# Altium schematic symbol library LM.SchLib: 2 symbols
Pins are listed as number, name and electrical type; pins without a type are passive.

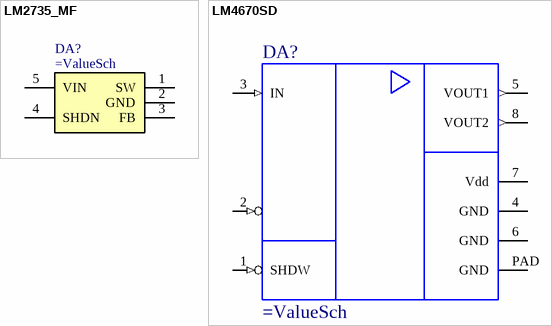
[diagram p0: symbols LM2735_MF to LM4670SD]

## LM2735_MF
designator DA?
LM2735
pins: 1 SW, 2 GND, 3 FB, 4 SHDN, 5 VIN

## LM4670SD
designator DA?
3W Switching  Audio Amplifier
pins: 1 SHDW (in) "Shutdown mode", 2 -IN (in) "Invert input", 3 IN (in) "Noninvert input", 4 GND (power), 5 VOUT1 (out) "Output 1", 6 GND (power), 7 Vdd (power) "Power supply", 8 VOUT2 (out) "Output 2", PAD GND (power) "GND Power PAD"